# EAGLE library part SI1922EDH-T1-GE3 (library fets)
MOSFET 2N-CH 20V 1.3A SOT-363
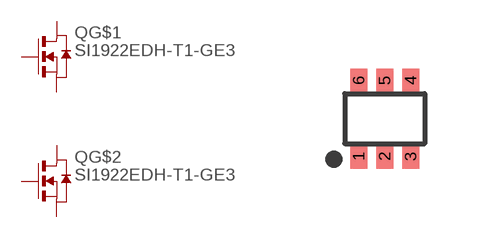
[diagram p1: symbol with the pads of SOT363; footprint SOT363]

Designator prefix Q; gates G$1=N_MOSFET G$2=N_MOSFET

## SI1922EDH-T1-GE3 (DIGIKEY: SI1922EDH-T1-GE3CT-ND; MANUFACTURER: Vishay Siliconix; MPN: SI1922EDH-T1-GE3)  [SOT363]
1  G$1:S  pas
2  G$1:G  pas
3  G$2:D  pas
4  G$2:S  pas
5  G$2:G  pas
6  G$1:D  pas

## Footprint SOT363 (pad centres in mm)
smd 0.42 x 0.6: 1 -0.65,-0.95; 2 0,-0.95; 3 0.65,-0.95; 4 0.65,0.95; 5 0,0.95; 6 -0.65,0.95